# EAGLE library part 14_PINES (library Eagle_CAD_parts)
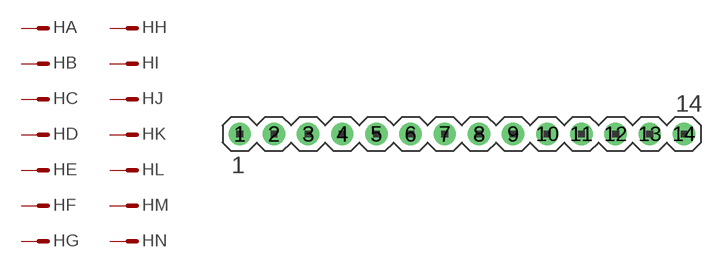
[diagram p60: symbol with the pads of 14_PINES; footprint 14_PINES]

Designator prefix H; gates A=PIN_1 B=PIN_1 C=PIN_1 D=PIN_1 E=PIN_1 F=PIN_1 G=PIN_1 H=PIN_1 I=PIN_1 J=PIN_1 K=PIN_1 L=PIN_1 M=PIN_1 N=PIN_1

## 14_PINES_WR-PHD (DIGIKEY_PART_NUMBER: 732-5325-ND; I: 3 A; MANUFACTURER_PART_NUMBER: 61301411121; V: 250 V)  [14_PINES]
1  A:S  pas
2  B:S  pas
3  C:S  pas
4  D:S  pas
5  E:S  pas
6  F:S  pas
7  G:S  pas
8  H:S  pas
9  I:S  pas
10  J:S  pas
11  K:S  pas
12  L:S  pas
13  M:S  pas
14  N:S  pas

## Footprint 14_PINES (pad centres in mm)
drill 1.1: 1 -16.51,0; 2 -13.97,0; 3 -11.43,0; 4 -8.89,0; 5 -6.35,0; 6 -3.81,0; 7 -1.27,0; 8 1.27,0; 9 3.81,0; 10 6.35,0; 11 8.89,0; 12 11.43,0; 13 13.97,0; 14 16.51,0